# EAGLE library part 74*4075 (library 74ttl-din_modified)
Triple 3-input OR
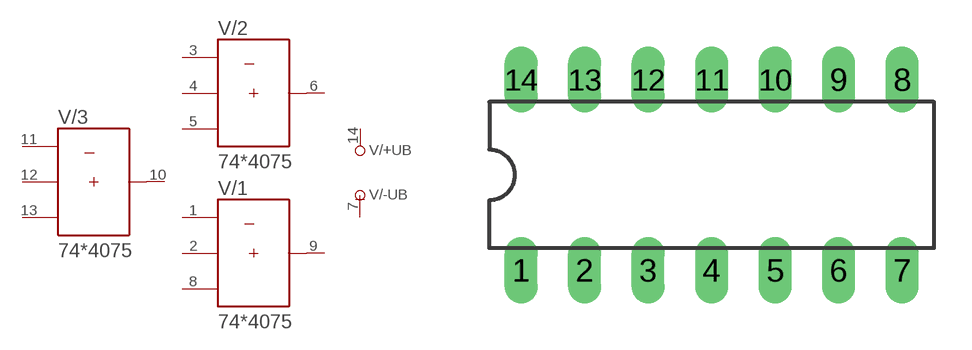
[diagram p17: symbol with the pads of DIL14; footprint DIL14]

Designator prefix V; gates /+UB=+UB /-UB=-UB /1=4075 /2=4075 /3=4075

## 744075N  [DIL14]
1  /1:A  in
2  /1:B  in
3  /2:A  in
4  /2:B  in
5  /2:C  in
6  /2:Y  out
7  /-UB:-UB  pwr
8  /1:C  in
9  /1:Y  out
10  /3:Y  out
11  /3:A  in
12  /3:B  in
13  /3:C  in
14  /+UB:+UB  pwr

## Footprint DIL14 (pad centres in mm)
Dual In Line Package
drill 0.813 long: 1 -7.62,-3.81; 2 -5.08,-3.81; 3 -2.54,-3.81; 4 0,-3.81; 5 2.54,-3.81; 6 5.08,-3.81; 7 7.62,-3.81; 8 7.62,3.81; 9 5.08,3.81; 10 2.54,3.81; 11 0,3.81; 12 -2.54,3.81; 13 -5.08,3.81; 14 -7.62,3.81